# Altium footprint library IN-S124AR.PcbLib: 2 footprints
Each footprint in its own frame and in the unit in brackets; x right, y up, seen from the top. Pads: shape width x height; smd on the part's side, far side on the other; paste and mask are expansions set on the pad; w line width, h text height; cw(c..) or ccw(c..) is an arc to the next point about the centre after c.
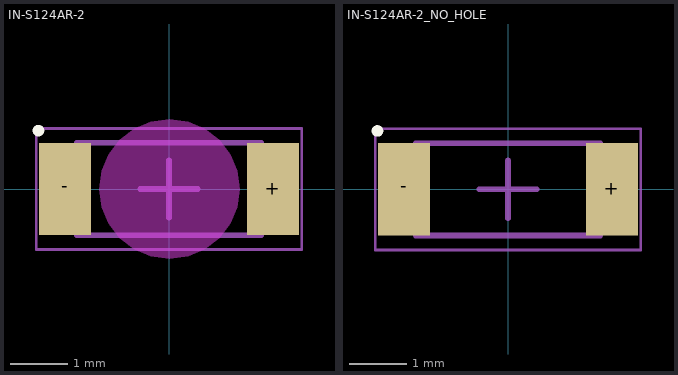
[diagram p0: the footprints below, top view; thin cyan lines are the x and y axes]

## IN-S124AR-2 [mm]
height 1.2
pads (2):
  rect 0.9x1.6 smd: +(1.8,0) -(-1.8,0)
Top Overlay:
  circle w0.1: c-2.262,1.012 r0.05
Keep-Out Layer:
  board cut-out: 0,1.21 -0.313,1.169 -0.605,1.048 -0.856,0.856 -1.048,0.605 -1.169,0.313 -1.21,0 -1.169,-0.313 -1.048,-0.605 -0.856,-0.856 -0.605,-1.048 -0.313,-1.169 0,-1.21 0,-1.2 0.017,-1.21 0.33,-1.169 0.622,-1.048 0.872,-0.856 1.065,-0.605 1.186,-0.313 1.227,0 1.186,0.313 1.065,0.605 0.872,0.856 0.622,1.048 0.33,1.169 0.017,1.21 0.017,1.2
Mechanical 13:
  lines w0.1: -1.6,-0.8 -1.6,0.8 1.6,0.8 1.6,-0.8 -1.6,-0.8
Mechanical 15:
  lines w0.05: -2.3,-1.05 -2.3,1.05 2.3,1.05 2.3,-1.05 -2.3,-1.05
  lines w0.1: -0.5,0 0.5,0 ; 0,-0.5 0,0.5
3D body: height 1.2, standoff 0, extent -0.4,-0.8 0.4,0.8
3D body: height 1.2, standoff 0, extent -1.6,-0.8 -0.4,0.8
3D body: height 1.2, standoff 0, extent 0.4,-0.8 1.6,0.8

## IN-S124AR-2_NO_HOLE [mm]
pads (2):
  rect 0.9x1.6 smd: +(1.8,0) -(-1.8,0)
Top Overlay:
  circle w0.1: c-2.262,1.012 r0.05
Mechanical 13:
  lines w0.1: -1.6,-0.8 1.6,-0.8 1.6,0.8 -1.6,0.8 -1.6,-0.8
Mechanical 15:
  lines w0.05: -2.3,-1.05 2.3,-1.05 2.3,1.05 -2.3,1.05 -2.3,-1.05
  lines w0.1: -0.5,0 0.5,0 ; 0,-0.5 0,0.5
3D body: height 1.2, standoff 0, extent 0.4,-0.8 1.6,0.8
3D body: height 1.2, standoff 0, extent -1.6,-0.8 -0.4,0.8
3D body: height 1.2, standoff 0, extent -0.4,-0.8 0.4,0.8